# EAGLE library part SN74F151BDR (library Tic-Tac-Toe_Component)
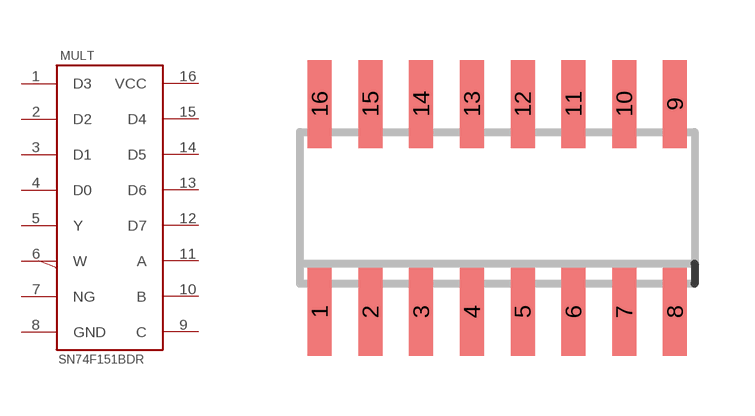
[diagram p0: symbol with the pads of SOIC16N; footprint SOIC16N]

Designator prefix MULT

## SN74F151BDR  [SOIC16N]
1  D3  in
2  D2  in
3  D1  in
4  D0  in
5  Y  out
6  W  out
7  NG  in
8  GND  pwr
9  C  in
10  B  in
11  A  in
12  D7  in
13  D6  in
14  D5  in
15  D4  in
16  VCC  pwr

## Footprint SOIC16N (pad centres in mm)
SMALL OUTLINE INTEGRATED CIRCUIT
smd 0.6 x 2.2: 1 -4.445,-2.6; 2 -3.175,-2.6; 3 -1.905,-2.6; 4 -0.635,-2.6; 5 0.635,-2.6; 6 1.905,-2.6; 7 3.175,-2.6; 8 4.445,-2.6; 9 4.445,2.6; 10 3.175,2.6; 11 1.905,2.6; 12 0.635,2.6; 13 -0.635,2.6; 14 -1.905,2.6; 15 -3.175,2.6; 16 -4.445,2.6